# EAGLE library part HX2019 (library Transformer)
XFRMR MAGNT MOD 1PORT POE 10/100
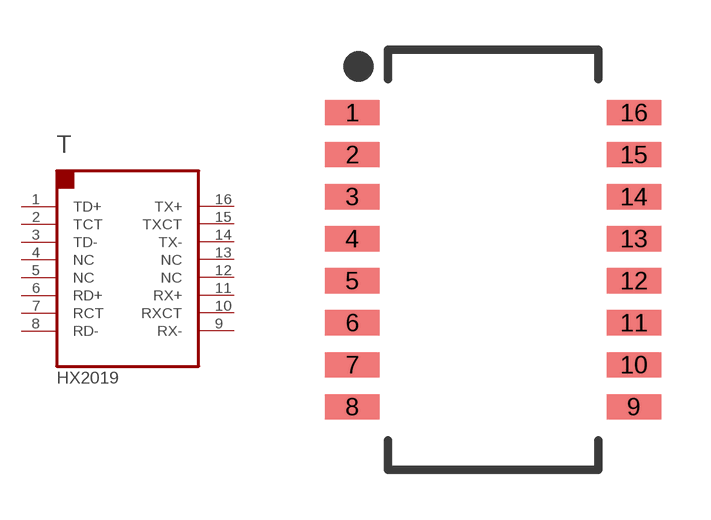
[diagram p0: symbol with the pads of HX2019; footprint HX2019]

Designator prefix T

## HX2019FNL  [HX2019]
1  TD+  pas
2  TCT  pas
3  TD-  pas
4  NC  nc
5  NC  nc
6  RD+  pas
7  RCT  pas
8  RD-  pas
9  RX-  pas
10  RXCT  pas
11  RX+  pas
12  NC  nc
13  NC  nc
14  TX-  pas
15  TXCT  pas
16  TX+  pas

## Footprint HX2019 (pad centres in mm)
Pulse Transformer HX2019
smd 1.651 x 0.762: 1 -4.255,4.445; 2 -4.255,3.175; 3 -4.255,1.905; 4 -4.255,0.635; 5 -4.255,-0.635; 6 -4.255,-1.905; 7 -4.255,-3.175; 8 -4.255,-4.445; 9 4.255,-4.445; 10 4.255,-3.175; 11 4.255,-1.905; 12 4.255,-0.635; 13 4.255,0.635; 14 4.255,1.905; 15 4.255,3.175; 16 4.255,4.445